# EAGLE library part MA07-1 (library CON-pinHeader-AON)
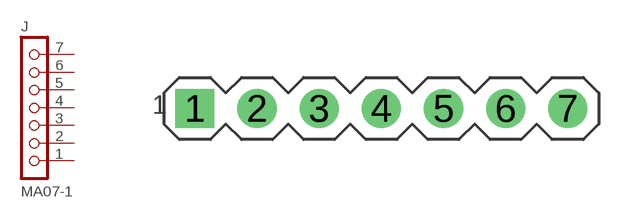
[diagram p0: symbol with the pads of MA07-1; footprint MA07-1]

Designator prefix J

## MA07-1  [MA07-1]
1  1  pas
2  2  pas
3  3  pas
4  4  pas
5  5  pas
6  6  pas
7  7  pas

## Footprint MA07-1 (pad centres in mm)
drill 1 pad 1.6 square: 1 -7.62,0
drill 1 pad 1.6: 2 -5.08,0; 3 -2.54,0; 4 0,0; 5 2.54,0; 6 5.08,0; 7 7.62,0